# Altium schematic symbol library BridgeDrivers.SchLib: 1 symbol
Pins are listed as number, name and electrical type; pins without a type are passive.

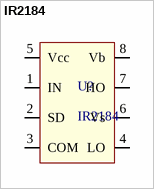
[diagram p0: symbol IR2184]

## IR2184
designator U?
IR2184 half-bridge MOSFET JFET driver
footprint DIP-8
simulation model IR2184 (Copyright (c) International Rectifier)
pins: 1 IN, 2 SD, 3 COM, 4 LO, 5 Vcc, 6 Vs, 7 HO, 8 Vb